# EAGLE library part MPU-6050-BO (library s3-pilot2-lbr)
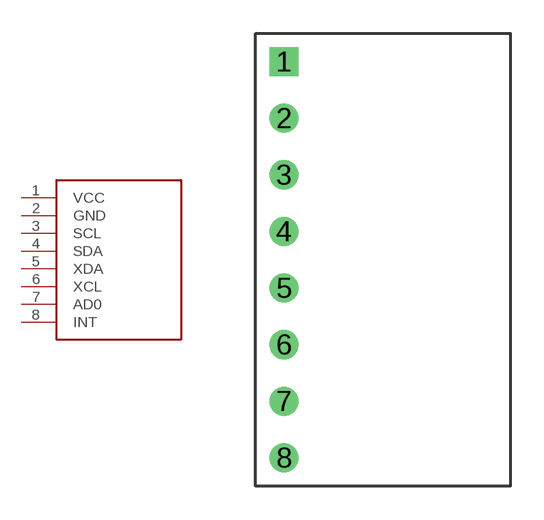
[diagram p1: symbol with the pads of MPU-6050-BO; footprint MPU-6050-BO]

Designator prefix -

## MPU-6050-BO  [MPU-6050-BO]
1  VCC  pwr
2  GND  pwr
3  SCL
4  SDA
5  XDA
6  XCL
7  AD0  in
8  INT  out

## Footprint MPU-6050-BO (pad centres in mm)
drill 0.8 square: 1 1.27,19.05
drill 0.8: 2 1.27,16.51; 3 1.27,13.97; 4 1.27,11.43; 5 1.27,8.89; 6 1.27,6.35; 7 1.27,3.81; 8 1.27,1.27